# Altium schematic symbol library TempSchematics.schlib: 6 symbols
Pins are listed as number, name and electrical type; pins without a type are passive.

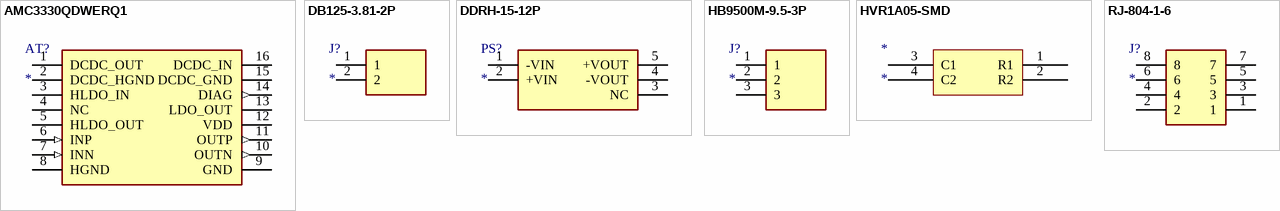
[diagram p0: symbols AMC3330QDWERQ1 to RJ-804-1-6]

## AMC3330QDWERQ1
designator AT?
Attenuator or Isolator; Manufacturer_Name: Texas Instruments; Manufacturer_Part_Number: AMC3330QDWERQ1; Datasheet Link: https://www.ti.com/lit/ds/symlink/amc3330.pdf?ts=1605812770714&ref_url=https%253A%252F%252Fwww.ti.com%252Fsitesearch%252Fdocs%252Funiversalsearch.tsp%253FsearchTerm%253DAMC3330DWE; Height: 2.65mm; Mouser Part Number: 595-AMC3330QDWERQ1; Mouser Price/Stock: https://www.mouser.co.uk/ProductDetail/Texas-Instruments/AMC3330QDWERQ1?qs=81r%252BiQLm7BThq9fK1XpIYg%3D%3D; Arrow Part Number: AMC3330QDWERQ1; Arrow Price/Stock: https://www.arrow.com/en/products/amc3330qdwerq1/texas-instruments?utm_currency=USD&region=nac
footprint SOIC127P1030X265-16N
pins: 1 DCDC_OUT (power), 2 DCDC_HGND (power), 3 HLDO_IN (power), 4 NC, 5 HLDO_OUT (power), 6 INP (in), 7 INN (in), 8 HGND (power), 9 GND (power), 10 OUTN (out), 11 OUTP (out), 12 VDD (power), 13 LDO_OUT (power), 14 DIAG (out), 15 DCDC_GND (power), 16 DCDC_IN (power)

## DB125-3.81-2P
designator J?
Connector; Manufacturer_Name: Cixi Dibo Electronics Co.,LTD; Manufacturer_Part_Number: DB125-3.81-2P; Datasheet Link: https://datasheet.lcsc.com/szlcsc/1910111742_DIBO-DB125-3-81-2P_C395878.pdf; Height: 8.8mm
footprint SHDR2W80P0X381_1X2_802X740X880P
pins: 1, 2

## DDRH-15-12P
designator PS?
Power Supply; Manufacturer_Name: Mean Well; Manufacturer_Part_Number: DDRH-15-12P; Description: Isolated DC/DC Converters - Through Hole 15W 150-1500Vin 12V 1.25A PCB mnt; Datasheet Link: https://www.meanwell.com/webapp/product/search.aspx?prod=DDRH-15; Height: 25.03mm; Arrow Part Number: DDRH-15-12P; Arrow Price/Stock: https://www.arrow.com/en/products/ddrh-15-12p/mean-well-enterprises?utm_currency=USD&region=nac
footprint DDRH1512P
pins: 1 -VIN, 2 +VIN, 3 NC, 4 -VOUT, 5 +VOUT

## HB9500M-9.5-3P
designator J?
Connector; Manufacturer_Name: Ningbo Kangnex; Manufacturer_Part_Number: HB9500M-9.5-3P; Datasheet Link: https://datasheet.lcsc.com/szlcsc/Ningbo-Kangnex-Elec-HB9500-3_C162697.pdf; Height: 13.2mm
footprint HB9500M953P
pins: 1, 2, 3

## HVR1A05-SMD
designator *
ComponentLink1Description: Datasheet; ComponentLink1URL: https://jlcpcb.com/api/file/downloadByFileSystemAccessId/8603384602715443200
footprint HVR1A05-SMD (Footprint not found)
pins: 1 R1 "Contactor 1", 2 R2 "Contactor 2", 3 C1 "Coil 1", 4 C2 "Coil 2"

## RJ-804-1-6
designator J?
Connector; Manufacturer_Name: FG; Manufacturer_Part_Number: RJ-804-1-6; Datasheet Link: https://www.lcsc.com/datasheet/lcsc_datasheet_2306211558_FG-RJ-804-1-6_C7205183.pdf; Height: 11.7mm
footprint RJ80416
pins: 1, 2, 3, 4, 5, 6, 7, 8